# Altium footprint library VT.PcbLib: 10 footprints
Each footprint in its own frame and in the unit in brackets; x right, y up, seen from the top. Pads: shape width x height; smd on the part's side, far side on the other; paste and mask are expansions set on the pad; w line width, h text height; cw(c..) or ccw(c..) is an arc to the next point about the centre after c.
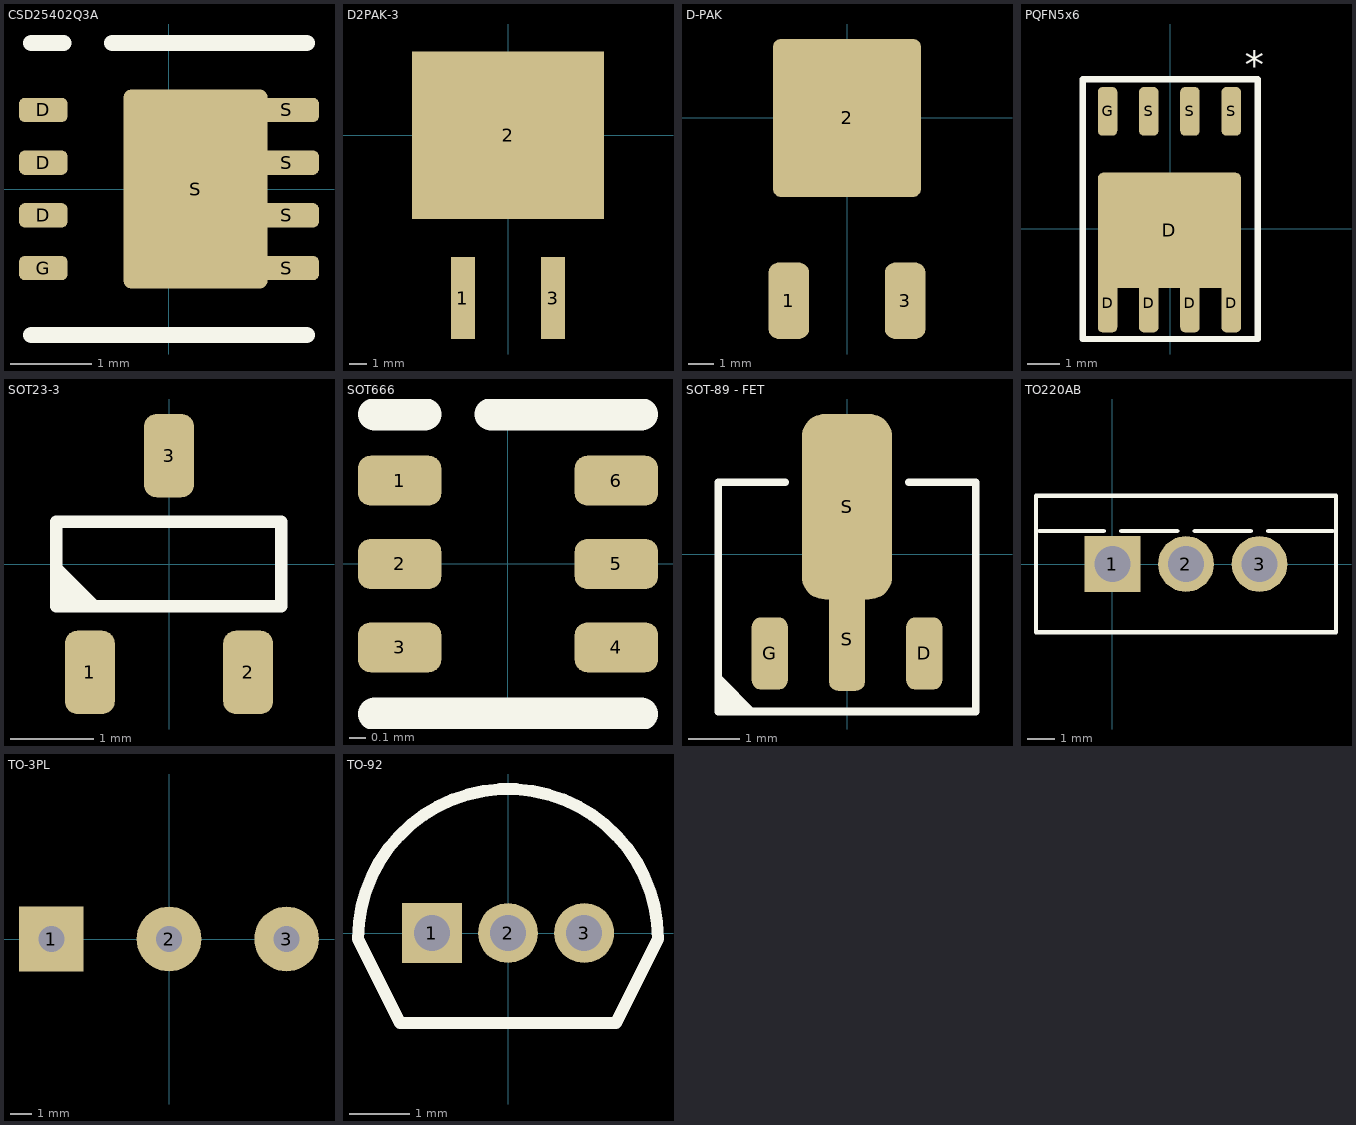
[diagram p0: the footprints below, top view; thin cyan lines are the x and y axes]

## CSD25402Q3A [mm]
pads (9):
  rrect50% 0.6x0.3 smd: D(-1.55,-0.325) D(-1.55,0.325) D(-1.55,0.975) G(-1.55,-0.975)
  rrect10% 1.775x2.45 smd: S(0.327,0)
  rrect50% 0.8x0.3 smd: S(1.45,-0.975) S(1.45,-0.325) S(1.45,0.325) S(1.45,0.975)
Top Overlay:
  lines w0.2: -1.7,-1.8 1.7,-1.8 ; -1.7,1.8 -1.3,1.8 ; -0.7,1.8 1.7,1.8
3D body "DNH0008A.stp": height 0.9, standoff 0, extent -1.65,-1.655 1.65,1.655

## D2PAK-3 [mm]
pads (3):
  rect 1.35x4.6 smd paste+0 mask+0: 1(-2.54,-9.15) 3(2.54,-9.15)
  rect 10.8x9.4 smd paste+0 mask+0: 2(0,0)
3D body "D2PAK_VIS.step": height 4.83, standoff -0.05, extent -5.334,-9.568 5.334,4.367

## D-PAK [mm]
pads (3):
  rrect50% 1.6x3 smd: 1(-2.286,-7.18) 3(2.286,-7.18)
  rrect10% 5.8x6.2 smd: 2(0,0)
3D body "MJD45H11G.STEP": height 2.49, standoff -0.03, extent -3.25,-7.653 3.25,2.253

## PQFN5x6 [mm]
pads (9):
  rrect50% 0.6x1.8 smd: D(-1.93,-2.296) D(-0.66,-2.296) D(0.607,-2.296) D(1.88,-2.296)
  rrect10% 4.41x3.545 smd: D(-0.025,-0.051)
  rrect50% 0.6x1.5 smd: G(-1.93,3.607) S(-0.66,3.607) S(0.607,3.607) S(1.88,3.607)
Top Overlay:
  lines w0.2: -2.7,-3.4 -2.7,4.6 -2.1,4.6 2.7,4.6 2.7,-3.4 -2.7,-3.4
  text "*" at 2.3,4.331 h1.5
3D body "User Library-PQFN8_5X6.step": height 1, standoff 0, extent -2.56,-2.44 2.54,3.76

## SOT23-3 [mm]
pads (3):
  rrect50% 0.6x1 smd: 1(-0.95,-1.3) 2(0.95,-1.3) 3(0,1.3)
Top Overlay:
  region: -1.353,-0.508 -1.353,0.053 -0.792,-0.508
  lines w0.15: -1.353,-0.508 -1.353,0.508 1.347,0.508 1.347,-0.508 -1.353,-0.508
3D body "SOT23_BZX84C_3X1P4_DIO.step": height 1.09, standoff 0, extent -1.448,-1.245 1.448,1.245

## SOT666 [mm]
pads (6):
  rrect50% 0.5x0.3 smd: 1(-0.65,0.5) 2(-0.65,0) 3(-0.65,-0.5) 4(0.65,-0.5) 5(0.65,0) 6(0.65,0.5)
Top Overlay:
  lines w0.2: -0.8,-0.9 0.8,-0.9 ; -0.8,0.9 -0.5,0.9 ; -0.1,0.9 0.8,0.9
3D body "SOT666.step": height 0.55, standoff -0.02, extent -0.8,-0.8 0.8,0.8

## SOT-89 - FET [mm]
pads (4):
  rrect50% 0.7x1.4 smd: D(1.5,-1.925) G(-1.5,-1.925)
  rrect50% 0.7x2 smd: S(0,-1.65)
  rrect50% 1.75x3.6 smd: S(0,0.925)
Top Overlay:
  region: -2.5,-3.1 -1.7,-3.1 -2.5,-2.3
  lines w0.15: -1.2,1.4 -2.5,1.4 -2.5,-3.05 2.5,-3.05 2.5,1.4 1.2,1.4
3D body "CircuitWorks-SOT-89.STEP": height 1.5, standoff 0, extent -2.25,-2.25 2.25,1.75

## TO220AB [mm]
pads (3):
  rect 2x2 hole 1.3 mask+0: 1(0,0)
  round 2 hole 1.3 mask+0: 2(2.64,0) 3(5.28,0)
Top Overlay:
  lines w0.152: -2.618,1.181 -0.312,1.181 ; 0.312,1.181 2.328,1.181 ; 2.952,1.181 4.968,1.181 ; 5.592,1.181 7.898,1.181 ; -2.745,-2.451 -2.745,2.451 8.025,2.451 8.025,-2.451 -2.745,-2.451
3D body "TO220AB_VIS.step": height 15.24, standoff -6.6, extent -2.62,-2.324 7.896,2.324

## TO-3PL [mm]
pads (3):
  rect 3x3 hole 1.2: 1(-5.45,0)
  round 3 hole 1.2: 2(0,0) 3(5.45,0)
3D body "2SC5200--3DModel-STEP-1.STEP": height 29.3, standoff -17.6, extent -10,-1.862 10,3.138

## TO-92 [mm]
pads (3):
  rect 1x1 hole 0.6: 1(-1.27,0)
  round 1 hole 0.6: 2(0,0) 3(1.27,0)
Top Overlay:
  lines w0.2: -1.8,-1.5 0,-1.5 1.8,-1.5 2.5,-0.1 ccw(c0,-0.1) -2.5,-0.1 -1.8,-1.5 ; -1.8,-1.5 -1.8,-1.5
3D body "78L05ACZ.STEP": height 7.34, standoff -10.7, extent -2.412,-1.34 2.412,2.34